# EAGLE library part EFM32GG332_Q64 (library Semiconductors > Embedded Processors & Controllers > Microcontrollers - MCU)
The EFM32GG offers unmatched performance and ultra low power consumption in both active and sleep modes. EFM32GG devices consume as little as 0.6 μA in Stop mode and 180 μA/MHz in Run mode. It also features autonomous peripherals, high overall chip and analog integration, and the performance of the industry standard 32-bit ARM CortexM3 processor, making it perfect for battery-powered systems and systems with high-performance, low-energy requirements.
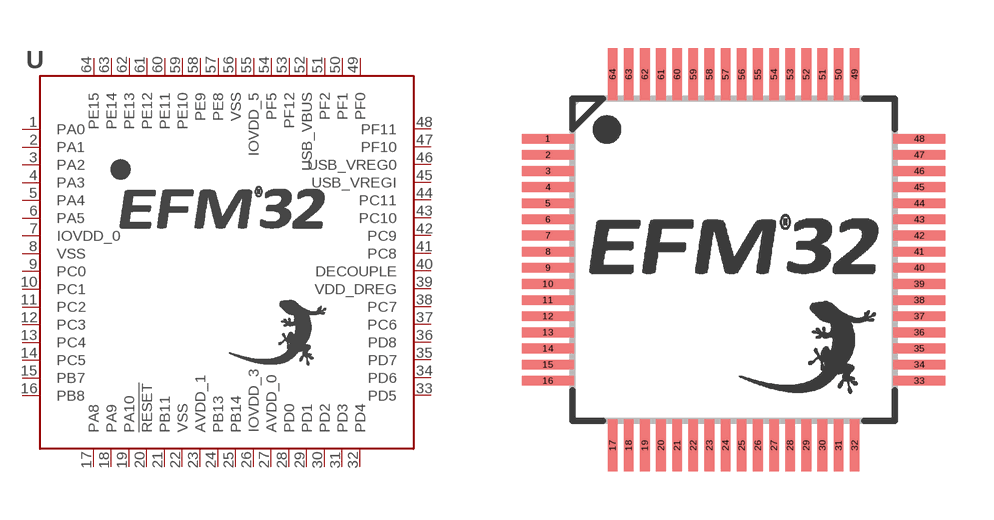
[diagram p5: symbol with the pads of QFP64-EFM; footprint QFP64-EFM]

Designator prefix U

## EFM32GG332_Q64Q64  [QFP64-EFM]
1  PA0
2  PA1
3  PA2
4  PA3
5  PA4
6  PA5
7  IOVDD_0
8  VSS
9  PC0
10  PC1
11  PC2
12  PC3
13  PC4
14  PC5
15  PB7
16  PB8
17  PA8
18  PA9
19  PA10
20  !RESET!
21  PB11
22  VSS
23  AVDD_1
24  PB13
25  PB14
26  IOVDD_3
27  AVDD_0
28  PD0
29  PD1
30  PD2
31  PD3
32  PD4
33  PD5
34  PD6
35  PD7
36  PD8
37  PC6
38  PC7
39  VDD_DREG
40  DECOUPLE
41  PC8
42  PC9
43  PC10
44  PC11
45  USB_VREGI
46  USB_VREG0
47  PF10
48  PF11
49  PF0
50  PF1
51  PF2
52  USB_VBUS
53  PF12
54  PF5
55  IOVDD_5
56  VSS
57  PE8
58  PE9
59  PE10
60  PE11
61  PE12
62  PE13
63  PE14
64  PE15

## Footprint QFP64-EFM (pad centres in mm)
smd 1.6 x 0.3: 1 -5.75,3.75; 2 -5.75,3.25; 3 -5.75,2.75; 4 -5.75,2.25; 5 -5.75,1.75; 6 -5.75,1.25; 7 -5.75,0.75; 8 -5.75,0.25; 9 -5.75,-0.25; 10 -5.75,-0.75; 11 -5.75,-1.25; 12 -5.75,-1.75; 13 -5.75,-2.25; 14 -5.75,-2.75; 15 -5.75,-3.25; 16 -5.75,-3.75; 33 5.75,-3.75; 34 5.75,-3.25; 35 5.75,-2.75; 36 5.75,-2.25; 37 5.75,-1.75; 38 5.75,-1.25; 39 5.75,-0.75; 40 5.75,-0.25; 41 5.75,0.25; 42 5.75,0.75; 43 5.75,1.25; 44 5.75,1.75; 45 5.75,2.25; 46 5.75,2.75; 47 5.75,3.25; 48 5.75,3.75
smd 0.3 x 1.6: 17 -3.75,-5.75; 18 -3.25,-5.75; 19 -2.75,-5.75; 20 -2.25,-5.75; 21 -1.75,-5.75; 22 -1.25,-5.75; 23 -0.75,-5.75; 24 -0.25,-5.75; 25 0.25,-5.75; 26 0.75,-5.75; 27 1.25,-5.75; 28 1.75,-5.75; 29 2.25,-5.75; 30 2.75,-5.75; 31 3.25,-5.75; 32 3.75,-5.75; 49 3.75,5.75; 50 3.25,5.75; 51 2.75,5.75; 52 2.25,5.75; 53 1.75,5.75; 54 1.25,5.75; 55 0.75,5.75; 56 0.25,5.75; 57 -0.25,5.75; 58 -0.75,5.75; 59 -1.25,5.75; 60 -1.75,5.75; 61 -2.25,5.75; 62 -2.75,5.75; 63 -3.25,5.75; 64 -3.75,5.75